# Altium footprint library VQFN 6X5 – 39L.PcbLib: 1 footprints
Each footprint in its own frame and in the unit in brackets; x right, y up, seen from the top. Pads: shape width x height; smd on the part's side, far side on the other; paste and mask are expansions set on the pad; w line width, h text height; cw(c..) or ccw(c..) is an arc to the next point about the centre after c.
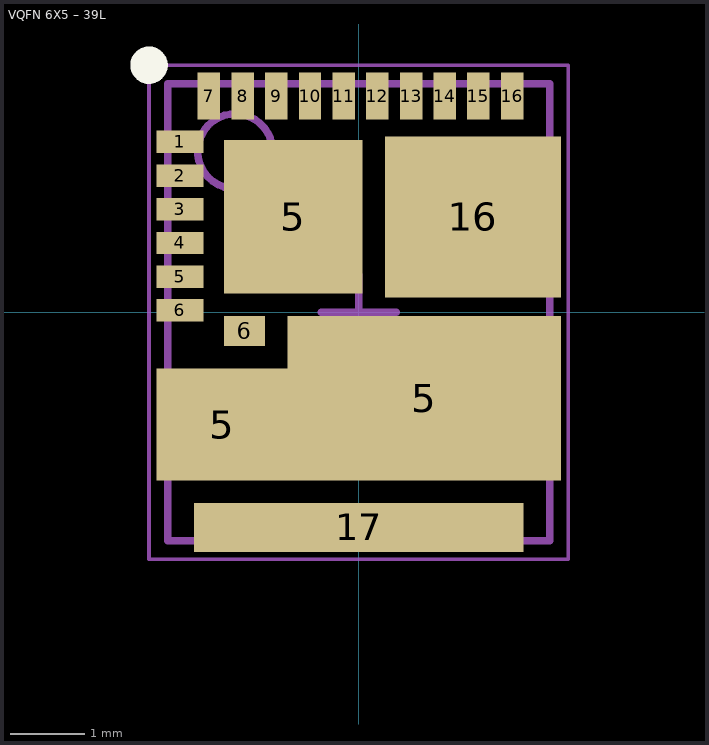
[diagram p0: the footprint, top view; thin cyan lines are the x and y axes]

## VQFN 6X5 – 39L [mm] "PQFN, 40-Leads, Body 5,00x6,00mm, Pitch 0,45mm, Thermal Pad 4,35x4,35mm, IPC Medium Density"
height 1
pads (22):
  rect 0.625x0.3 smd: 1(-2.387,2.275) 2(-2.387,1.825) 3(-2.387,1.375) 4(-2.387,0.925) 5(-2.387,0.475) 6(-2.387,0.025)
  rect 1.75x1.5 smd: 5(-1.825,-1.5)
  rect 1.85x2.05 smd: 5(-0.875,1.275)
  rect 3.65x2.2 smd: 5(0.875,-1.15)
  rect 0.55x0.4 smd: 6(-1.525,-0.25)
  rect 0.3x0.625 smd: 7(-2,2.887) 8(-1.55,2.887) 9(-1.1,2.887) 10(-0.65,2.887) 11(-0.2,2.887) 12(0.25,2.887) 13(0.7,2.887) 14(1.15,2.887) 15(1.6,2.887) 16(2.05,2.887)
  rect 2.35x2.15 smd: 16(1.525,1.275)
  rect 4.4x0.65 smd: 17(0,-2.875)
Top Overlay:
  circle w0.25: c-2.8,3.3 r0.125
Mechanical 13:
  circle w0.1: c-1.65,2.15 r0.5
  lines w0.1: -2.55,-3.05 -2.55,3.05 2.55,3.05 2.55,-3.05 -2.55,-3.05
Mechanical 15:
  lines w0.05: -2.8,-3.3 -2.8,3.3 2.8,3.3 2.8,-3.3 -2.8,-3.3
  lines w0.1: -0.5,0 0.5,0 ; 0,-0.5 0,0.5
3D body: height 1, standoff 0, extent -2.55,-3.05 2.55,3.05